# Altium schematic symbol library PTS647SN50SMTR2LFS.SchLib: 1 symbol
Pins are listed as number, name and electrical type; pins without a type are passive.

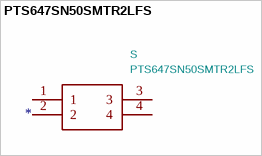
[diagram p0: symbol PTS647SN50SMTR2LFS]

## PTS647SN50SMTR2LFS
designator S  value PTS647SN50SMTR2LFS
Tactile Switches 50mA 12VDC, 1.0N 5.0mm H, G leads; Manufacturer_Name: C & K COMPONENTS; Footprint: PTS647SN50SMTR2LFS; Supplier: https://www.ckswitches.com/media/2567/pts647.pdf; Description_: Tactile Switches 50mA 12VDC, 1.0N 5.0mm H, G leads; Height: 5; Manufacturer_Part_Number: PTS647SN50SMTR2LFS; Mouser Part Number: 611-PTS647SN50SMTR2L; Mouser Price/Stock: https://www.mouser.com/Search/Refine.aspx?Keyword=611-PTS647SN50SMTR2L
footprint PTS647SN50SMTR2LFS
pins: 1, 2, 3, 4